# Altium footprint library fuses.PcbLib: 24 footprints (part 2 of 2)
Each footprint in its own frame and in the unit in brackets; x right, y up, seen from the top. Pads: shape width x height; smd on the part's side, far side on the other; paste and mask are expansions set on the pad; w line width, h text height; cw(c..) or ccw(c..) is an arc to the next point about the centre after c.
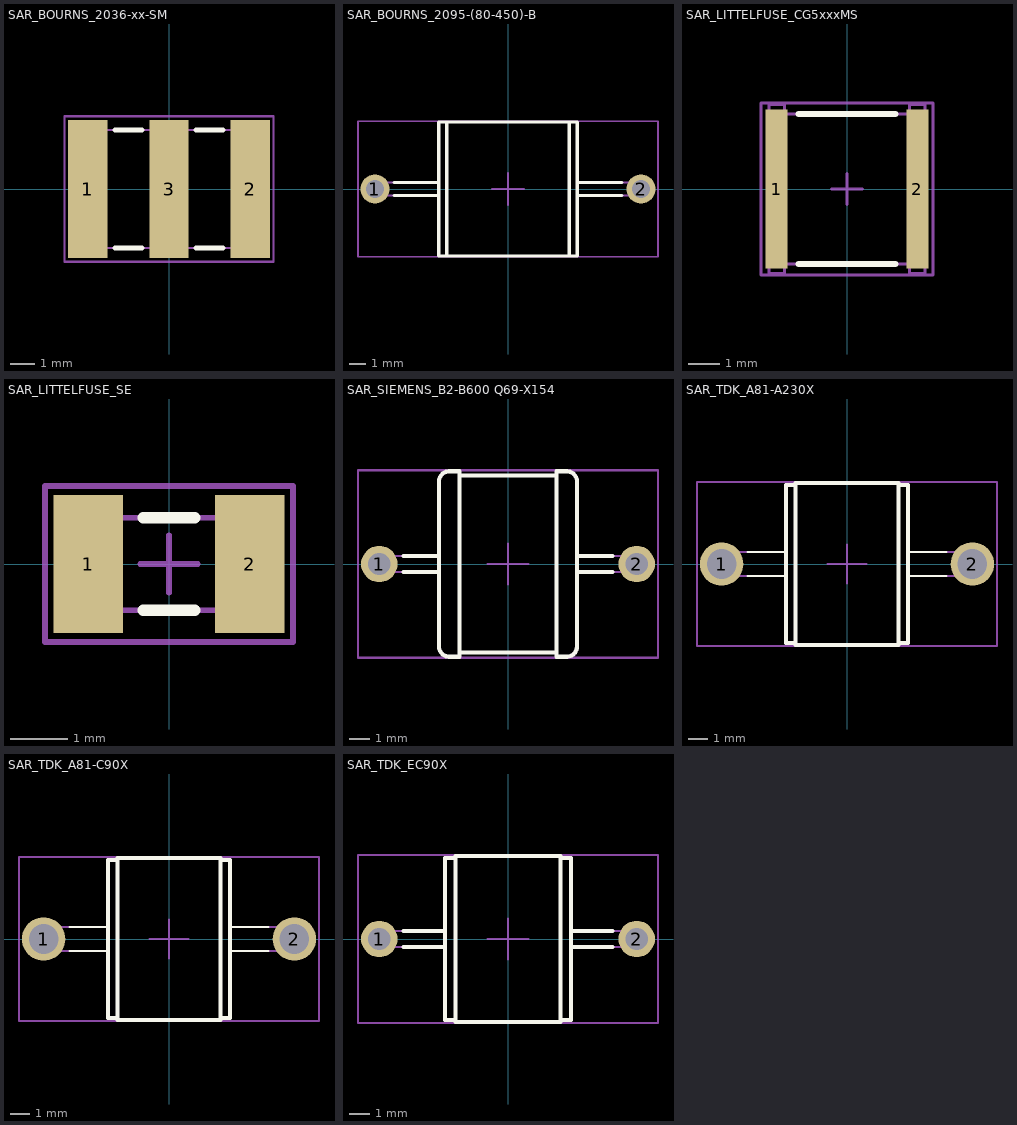
[diagram p1: the footprints below, top view; thin cyan lines are the x and y axes]

## SAR_BOURNS_2036-xx-SM [mm] "3-electrode Precision Gas Discharge Tube Surge Protector Body D5 mm x L7.3 mm"
height 5
pads (3):
  rect 1.6x5.6 smd: 1(-3.3,0) 2(3.3,0) 3(0,0)
Top Overlay:
  lines w0.2: -2.2,-2.4 -1.1,-2.4 ; -2.2,2.4 -1.1,2.4 ; 1.1,-2.4 2.2,-2.4 ; 1.1,2.4 2.2,2.4
Mechanical 1:
  lines w0.1: -3.15,-2.4 -0.45,-2.4 ; -3.15,2.4 -0.45,2.4 ; 0.45,-2.4 2.95,-2.4 ; 0.45,2.4 2.95,2.4 ; -3.65,-2.5 -3.15,-2.5 -3.15,2.5 -3.65,2.5 -3.65,-2.5 ; -0.45,-2.5 0.45,-2.5 0.45,2.5 -0.45,2.5 -0.45,-2.5 ; 2.95,-2.5 3.65,-2.5 3.65,2.5 2.95,2.5 2.95,-2.5
Mechanical 15:
  lines w0.1: -0.5,0 0.5,0 ; 0,-0.5 0,0.5 ; -4.25,-2.95 -4.25,2.95 4.25,2.95 4.25,-2.95 -4.25,-2.95
3D body "SAR_BOURNS_2036-xx-SM.stp": height 5, standoff 0, extent -3.65,-2.5 3.65,2.5

## SAR_BOURNS_2095-(80-450)-B [mm] "High Voltage 2-Electrode Gas Discharge Tube, Leads Spacing 16.5mm, D8mm x L 8, 2095 Series Model 80 Thru 450 Lead Diameter 0.8mm"
height 8.3
pads (2):
  round 1.8 hole 1.1: 1(-8.25,0) 2(8.25,0)
Top Overlay:
  lines w0.2: -7.066,-0.4 -4.3,-0.4 ; -7.066,0.4 -4.3,0.4 ; -3.8,-4.15 -3.8,4.15 ; 3.8,-4.15 3.8,4.15 ; 4.3,-0.4 7.066,-0.4 ; 4.3,0.4 7.066,0.4 ; -4.3,-4.15 4.3,-4.15 4.3,4.15 -4.3,4.15 -4.3,-4.15
Mechanical 1:
  lines w0.1: -4.3,-0.4 -8.25,-0.4 cw(c-8.25,0) -8.25,0.4 -4.3,0.4 ; -3.8,-4.15 -3.8,4.15 ; 3.8,-4.15 3.8,4.15 ; 4.3,-0.4 8.25,-0.4 ccw(c8.25,0) 8.25,0.4 4.3,0.4 ; -4.3,-4.15 4.3,-4.15 4.3,4.15 -4.3,4.15 -4.3,-4.15
Mechanical 15:
  lines w0.1: -1,0 0,0 ; 0,-1 0,0 ; 0,1 0,0 ; 1,0 0,0 ; -9.3,-4.2 -9.3,4.2 9.3,4.2 9.3,-4.2 -9.3,-4.2
3D body "SAR_BOURNS_2095-(80-450)-B.stp": height 8.25, standoff -3.8, extent -8.649,-4.15 8.649,4.15

## SAR_LITTELFUSE_CG5xxxMS [mm] "2-electrode Gas Discharge Tube Surge Protector Body D5.4mm x L5.0mm"
height 5.55
pads (2):
  rect 0.7x5.1 smd: 1(-2.25,0) 2(2.25,0)
Top Overlay:
  lines w0.2: -1.55,-2.4 1.55,-2.4 ; -1.55,2.4 1.55,2.4
Mechanical 1:
  lines w0.1: -2,-2.4 2,-2.4 ; -2,2.4 2,2.4 ; -2.5,-2.7 -2.5,2.7 -2,2.7 -2,-2.7 -2.5,-2.7 ; 2,-2.7 2.5,-2.7 2.5,2.7 2,2.7 2,-2.7
Mechanical 15:
  lines w0.1: -0.5,0 0,0 ; 0,-0.5 0,0 ; 0,0.5 0,0 ; 0.5,0 0,0 ; -2.75,-2.75 -2.75,2.75 2.75,2.75 2.75,-2.75 -2.75,-2.75
3D body "SAR_LITTELFUSE_CG5xxxMS.stp": height 5.4, standoff 0, extent -2.5,-2.7 2.5,2.7

## SAR_LITTELFUSE_SE [mm] "2-electrode Gas Discharge Tube Surge Protector Body 3.2mm L x 1.6mm W"
height 1.8
pads (2):
  rect 1.2x2.4 smd: 1(-1.4,0) 2(1.4,0)
Top Overlay:
  lines w0.2: -0.45,-0.8 0.45,-0.8 ; -0.45,0.8 0.45,0.8
Mechanical 1:
  lines w0.1: -1.3,-0.8 -1.3,0.8 ; 1.3,-0.8 1.3,0.8 ; -1.6,-0.8 -1.6,0.8 1.6,0.8 1.6,-0.8 -1.6,-0.8
Mechanical 15:
  lines w0.1: -0.5,0 0,0 ; 0,-0.5 0,0 ; 0,0.5 0,0 ; 0.5,0 0,0 ; -2.15,-1.35 -2.15,1.35 2.15,1.35 2.15,-1.35 -2.15,-1.35
3D body "SAR_LITTELFUSE_SE.stp": height 1.8, standoff 0, extent -1.6,-0.8 1.6,0.8

## SAR_SIEMENS_B2-B600 Q69-X154 [mm] "Surge Arrester, Axial Diameter, Leads Spacing 12.7mm, D9.15mm x L 6.5mm"
height 9.15
pads (2):
  round 1.8 hole 1.1: 1(-6.35,0) 2(6.35,0)
Top Overlay:
  lines w0.2: -5.166,-0.4 -3.4,-0.4 ; -5.166,0.4 -3.4,0.4 ; -2.4,-4.375 2.4,-4.375 ; -2.4,4.375 2.4,4.375 ; 3.4,-0.4 5.166,-0.4 ; 3.4,0.4 5.166,0.4 ; -3.4,-4.075 ccw(c-2.9,-4.075) -2.9,-4.575 -2.4,-4.575 -2.4,4.575 -2.9,4.575 ccw(c-2.9,4.075) -3.4,4.075 -3.4,-4.075 ; 2.4,-4.575 2.9,-4.575 ccw(c2.9,-4.075) 3.4,-4.075 3.4,4.075 ccw(c2.9,4.075) 2.9,4.575 2.4,4.575 2.4,-4.575
Mechanical 1:
  lines w0.1: -3.4,-0.4 -6.35,-0.4 cw(c-6.35,0) -6.35,0.4 -3.4,0.4 ; -2.4,-4.375 2.4,-4.375 ; -2.4,4.375 2.4,4.375 ; 3.4,-0.4 6.35,-0.4 ccw(c6.35,0) 6.35,0.4 3.4,0.4 ; -3.4,-4.075 ccw(c-2.9,-4.075) -2.9,-4.575 -2.4,-4.575 -2.4,4.575 -2.9,4.575 ccw(c-2.9,4.075) -3.4,4.075 -3.4,-4.075 ; 2.4,-4.575 2.4,4.575 2.9,4.575 cw(c2.9,4.075) 3.4,4.075 3.4,-4.075 cw(c2.9,-4.075) 2.9,-4.575 2.4,-4.575
Mechanical 15:
  lines w0.1: -1,0 0,0 ; 0,-1 0,0 ; 0,1 0,0 ; 1,0 0,0 ; -7.4,-4.625 -7.4,4.625 7.4,4.625 7.4,-4.625 -7.4,-4.625
3D body "SAR_SIEMENS_B2-B600 Q69-X154.stp": height 9.15, standoff -3.8, extent -6.75,-4.575 6.75,4.575

## SAR_TDK_A81-A230X [mm] "Surge Arrester,Axial Diameter, Leads Spacing 12.7mm, D8.2mm x L 6.25"
height 8.2
pads (2):
  round 2.2 hole 1.5: 1(-6.35,0) 2(6.35,0)
Top Overlay:
  lines w0.1: -5.03,-0.6 -3.1,-0.6 ; -5.03,0.6 -3.1,0.6 ; 3.1,-0.6 5.03,-0.6 ; 3.1,0.6 5.03,0.6
  lines w0.2: -2.6,-4 -3.1,-4 -3.1,4 -2.6,4 ; 2.6,-4 3.1,-4 3.1,4 2.6,4 ; -2.6,-4.1 -2.6,4.1 2.6,4.1 2.6,-4.1 -2.6,-4.1
Mechanical 1:
  lines w0.1: -3.1,-0.6 -6.35,-0.6 cw(c-6.35,0) -6.35,0.6 -3.1,0.6 ; -2.6,-4 -3.1,-4 -3.1,4 -2.6,4 ; 2.6,-4 3.1,-4 3.1,4 2.6,4 ; 3.1,-0.6 6.35,-0.6 ccw(c6.35,0) 6.35,0.6 3.1,0.6 ; -2.6,-4.1 -2.6,4.1 2.6,4.1 2.6,-4.1 -2.6,-4.1
Mechanical 15:
  lines w0.1: -1,0 0,0 ; 0,-1 0,0 ; 0,1 0,0 ; 1,0 0,0 ; -7.6,-4.15 -7.6,4.15 7.6,4.15 7.6,-4.15 -7.6,-4.15
3D body "SAR_TDK_A81-A230X.stp": height 8.2, standoff -3.8, extent -6.95,-4.1 6.95,4.1

## SAR_TDK_A81-C90X [mm] "Surge Arrester,Axial Diameter, Leads Spacing 12.7mm, D8.2mm x L 6.25"
height 8.2
pads (2):
  round 2.2 hole 1.5: 1(-6.35,0) 2(6.35,0)
Top Overlay:
  lines w0.1: -5.03,-0.6 -3.1,-0.6 ; -5.03,0.6 -3.1,0.6 ; 3.1,-0.6 5.03,-0.6 ; 3.1,0.6 5.03,0.6
  lines w0.2: -2.6,-4 -3.1,-4 -3.1,4 -2.6,4 ; 2.6,-4 3.1,-4 3.1,4 2.6,4 ; -2.6,-4.1 -2.6,4.1 2.6,4.1 2.6,-4.1 -2.6,-4.1
Mechanical 1:
  lines w0.1: -3.1,-0.6 -6.35,-0.6 cw(c-6.35,0) -6.35,0.6 -3.1,0.6 ; -2.6,-4 -3.1,-4 -3.1,4 -2.6,4 ; 2.6,-4 3.1,-4 3.1,4 2.6,4 ; 3.1,-0.6 6.35,-0.6 ccw(c6.35,0) 6.35,0.6 3.1,0.6 ; -2.6,-4.1 -2.6,4.1 2.6,4.1 2.6,-4.1 -2.6,-4.1
Mechanical 15:
  lines w0.1: -1,0 0,0 ; 0,-1 0,0 ; 0,1 0,0 ; 1,0 0,0 ; -7.6,-4.15 -7.6,4.15 7.6,4.15 7.6,-4.15 -7.6,-4.15
3D body "SAR_TDK_A81-C90X.stp": height 8.2, standoff -3.8, extent -6.95,-4.1 6.95,4.1

## SAR_TDK_EC90X [mm] "Surge Arrester,Axial Diameter, Leads Spacing 12.7mm, D8.2mm x L 6.25"
height 8.2
pads (2):
  round 1.8 hole 1.1: 1(-6.35,0) 2(6.35,0)
Top Overlay:
  lines w0.2: -5.166,-0.4 -3.1,-0.4 ; -5.166,0.4 -3.1,0.4 ; -2.6,-4 -3.1,-4 -3.1,4 -2.6,4 ; 2.6,-4 3.1,-4 3.1,4 2.6,4 ; 3.1,-0.4 5.166,-0.4 ; 3.1,0.4 5.166,0.4 ; -2.6,-4.1 2.6,-4.1 2.6,4.1 -2.6,4.1 -2.6,-4.1
Mechanical 1:
  lines w0.1: -3.1,-0.4 -6.35,-0.4 cw(c-6.35,0) -6.35,0.4 -3.1,0.4 ; -2.6,-4 -3.1,-4 -3.1,4 -2.6,4 ; 2.6,-4 3.1,-4 3.1,4 2.6,4 ; 3.1,-0.4 6.35,-0.4 ccw(c6.35,0) 6.35,0.4 3.1,0.4 ; -2.6,-4.1 2.6,-4.1 2.6,4.1 -2.6,4.1 -2.6,-4.1
Mechanical 15:
  lines w0.1: -1,0 0,0 ; 0,-1 0,0 ; 0,1 0,0 ; 1,0 0,0 ; -7.4,-4.15 7.4,-4.15 7.4,4.15 -7.4,4.15 -7.4,-4.15
3D body "SAR_TDK_EC90X.stp": height 8.2, standoff -3.8, extent -6.75,-4.1 6.75,4.1